# Altium footprint library Pcb封装库.PcbLib: 36 footprints (part 1 of 3)
Each footprint in its own frame and in the unit in brackets; x right, y up, seen from the top. Pads: shape width x height; smd on the part's side, far side on the other; paste and mask are expansions set on the pad; w line width, h text height; cw(c..) or ccw(c..) is an arc to the next point about the centre after c.
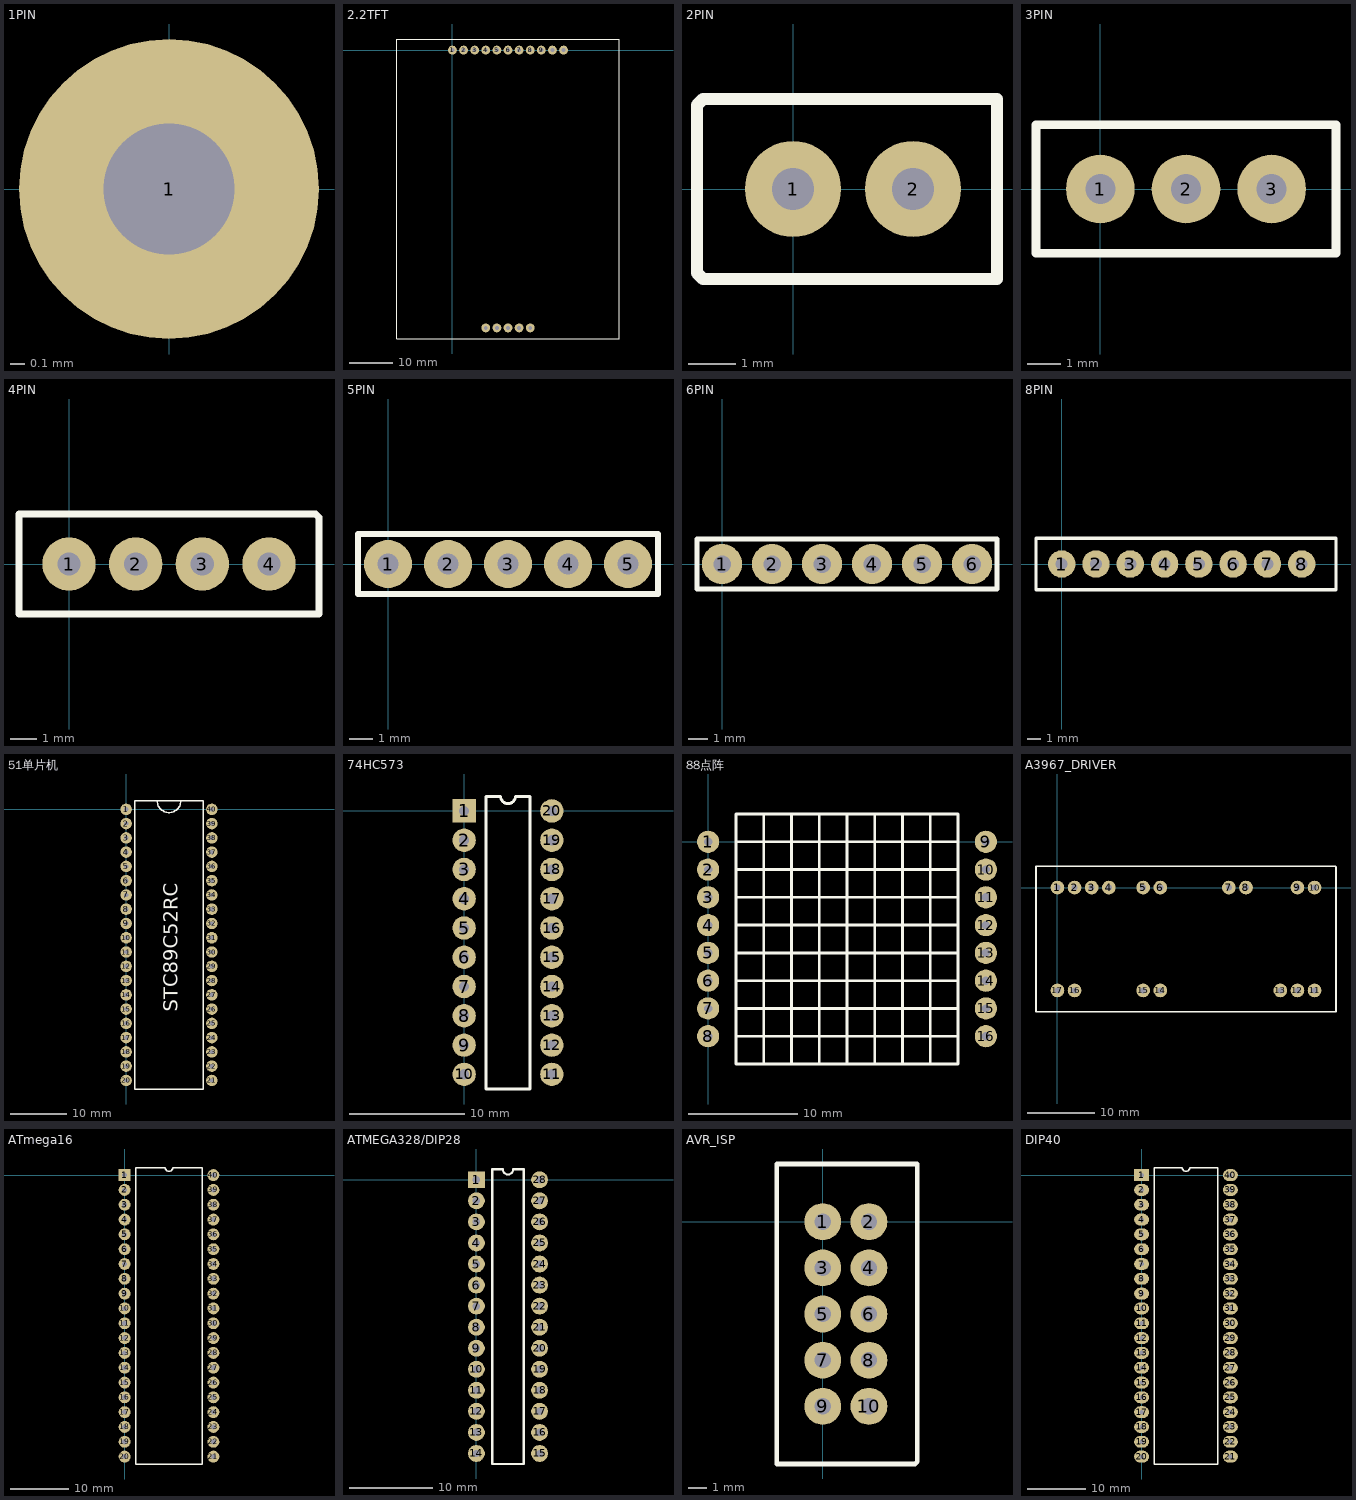
[diagram p0: the footprints below, top view; thin cyan lines are the x and y axes]

## 1PIN [mil]
pads (1):
  round 80 hole 35: 1(0,0)

## 2.2TFT [mil]
pads (16):
  round 80 hole 35: 1(0,0) 2(100,0) 3(200,0) 4(300,0) 5(400,0) 6(500,0) 7(600,0) 8(700,0) 9(800,0) 10(900,0) 11(1000,0) 12(300,-2500) 13(400,-2500) 14(500,-2500) 15(600,-2500) 16(700,-2500)
Top Overlay:
  lines w10: -500,-2600 -255,-2600 1500,-2600 1500,0 1500,100 -500,100 -500,0 -500,-2600

## 2PIN [mil]
pads (2):
  round 80 hole 35: 1(0,0) 2(100,0)
Top Overlay:
  lines w10: -80,-70 -80,70 -75,75 170,75 170,-75 -75,-75 -80,-70

## 3PIN [mil]
pads (3):
  round 80 hole 35: 1(0,0) 2(100,0) 3(200,0)
Top Overlay:
  lines w10: -75,-75 275,-75 275,75 -75,75 -75,-75

## 4PIN [mil]
pads (4):
  round 80 hole 35: 1(0,0) 2(100,0) 3(200,0) 4(300,0)
Top Overlay:
  lines w10: -75,-75 -75,75 370,75 375,70 375,-45 375,-75 -75,-75

## 5PIN [mil]
pads (5):
  round 80 hole 35: 1(0,0) 2(100,0) 3(200,0) 4(300,0) 5(400,0)
Top Overlay:
  lines w10: -50,-50 -50,50 450,50 450,-50 -50,-50

## 6PIN [mil]
pads (6):
  round 80 hole 35: 1(0,0) 2(100,0) 3(200,0) 4(300,0) 5(400,0) 6(500,0)
Top Overlay:
  lines w10: -50,-50 -50,50 550,50 550,-50 -50,-50

## 8PIN [mil]
pads (8):
  round 80 hole 35: 1(0,0) 2(100,0) 3(200,0) 4(300,0) 5(400,0) 6(500,0) 7(600,0) 8(700,0)
Top Overlay:
  lines w10: -75,-75 800,-75 800,75 -75,75 -75,-75

## 51单片机 [mil]
pads (40):
  round 80 hole 30: 1(0,0) 2(0,-100) 3(0,-200) 4(0,-300) 5(0,-400) 6(0,-500) 7(0,-600) 8(0,-700) 9(0,-800) 10(0,-900) 11(0,-1000) 12(0,-1100) 13(0,-1200) 14(0,-1300) 15(0,-1400) 16(0,-1500) 17(0,-1600) 18(0,-1700) 19(0,-1800) 20(0,-1900) 21(600,-1900) 22(600,-1800) 23(600,-1700) 24(600,-1600) 25(600,-1500) 26(600,-1400) 27(600,-1300) 28(600,-1200) 29(600,-1100) 30(600,-1000) 31(600,-900) 32(600,-800) 33(600,-700) 34(600,-600) 35(600,-500) 36(600,-400) 37(600,-300) 38(600,-200) 39(600,-100) 40(600,0)
Top Overlay:
  lines w10: 217.54,60 ccw(c300,60) 382.46,60 ; 60,-1960 60,60 540,60 540,-1960 60,-1960
  text "STC89C52RC" at 360,-1420 h100

## 74HC573 [mil]
pads (20):
  rect 80x80 hole 35: 1(0,0)
  round 80 hole 35: 2(0,-100) 3(0,-200) 4(0,-300) 5(0,-400) 6(0,-500) 7(0,-600) 8(0,-700) 9(0,-800) 10(0,-900) 11(300,-900) 12(300,-800) 13(300,-700) 14(300,-600) 15(300,-500) 16(300,-400) 17(300,-300) 18(300,-200) 19(300,-100) 20(300,0)
Top Overlay:
  lines w10: 75,-950 225,-950 225,50 175,50 cw(c150,50) 125,50 75,50 75,-950

## 88点阵 [mil]
pads (16):
  round 80 hole 30: 1(0,0) 2(0,-100) 3(0,-200) 4(0,-300) 5(0,-400) 6(0,-500) 7(0,-600) 8(0,-700) 9(1000,0) 10(1000,-100) 11(1000,-200) 12(1000,-300) 13(1000,-400) 14(1000,-500) 15(1000,-600) 16(1000,-700)
Top Overlay:
  lines w10: 100,-700 900,-700 ; 100,-600 900,-600 ; 100,-500 900,-500 ; 100,-400 900,-400 ; 100,-300 900,-300 ; 100,-200 900,-200 ; 100,-100 900,-100 ; 100,0 900,0 ; 200,-800 200,100 ; 300,-800 300,100 ; 400,-800 400,100 ; 500,-800 500,100 ; 600,-800 600,100 ; 700,-800 700,100 ; 800,-800 800,100 ; 100,-800 100,100 900,100 900,-800 100,-800

## A3967_DRIVER [mil]
pads (17):
  round 80 hole 35: 1(0,0) 2(100,0) 3(200,0) 4(300,0) 5(500,0) 6(600,0) 7(1000,0) 8(1100,0) 9(1400,0) 10(1500,0) 11(1500,-600) 12(1400,-600) 13(1300,-600) 14(600,-600) 15(500,-600) 16(100,-600) 17(0,-600)
Top Overlay:
  lines w10: -125,-725 -125,125 -75,125 1620,125 1625,120 1625,-725 -125,-725

## ATmega16 [mil]
pads (40):
  rect 80x80 hole 35: 1(0,0)
  round 80 hole 35: 2(0,-100) 3(0,-200) 4(0,-300) 5(0,-400) 6(0,-500) 7(0,-600) 8(0,-700) 9(0,-800) 10(0,-900) 11(0,-1000) 12(0,-1100) 13(0,-1200) 14(0,-1300) 15(0,-1400) 16(0,-1500) 17(0,-1600) 18(0,-1700) 19(0,-1800) 20(0,-1900) 21(600,-1900) 22(600,-1800) 23(600,-1700) 24(600,-1600) 25(600,-1500) 26(600,-1400) 27(600,-1300) 28(600,-1200) 29(600,-1100) 30(600,-1000) 31(600,-900) 32(600,-800) 33(600,-700) 34(600,-600) 35(600,-500) 36(600,-400) 37(600,-300) 38(600,-200) 39(600,-100) 40(600,0)
Top Overlay:
  lines w10: 75,-1950 75,50 275,50 ccw(c300,50) 325,50 525,50 525,-1950 75,-1950

## ATMEGA328/DIP28 [mil]
pads (28):
  rect 80x80 hole 35: 1(0,0)
  round 80 hole 35: 2(0,-100) 3(0,-200) 4(0,-300) 5(0,-400) 6(0,-500) 7(0,-600) 8(0,-700) 9(0,-800) 10(0,-900) 11(0,-1000) 12(0,-1100) 13(0,-1200) 14(0,-1300) 15(300,-1300) 16(300,-1200) 17(300,-1100) 18(300,-1000) 19(300,-900) 20(300,-800) 21(300,-700) 22(300,-600) 23(300,-500) 24(300,-400) 25(300,-300) 26(300,-200) 27(300,-100) 28(300,0)
Top Overlay:
  lines w10: 75,-1350 75,50 125,50 ccw(c150,50) 175,50 225,50 225,-1350 75,-1350

## AVR_ISP [mil]
pads (10):
  round 80 hole 35: 1(0,0) 2(100,0) 3(0,-100) 4(100,-100) 5(0,-200) 6(100,-200) 7(0,-300) 8(100,-300) 9(0,-400) 10(100,-400)
Top Overlay:
  lines w10: -100,-525 -100,125 205,125 205,-520 200,-525 -100,-525

## DIP40 [mil]
pads (40):
  rect 100x80 hole 30: 1(0,0)
  oval 100x80 hole 30: 2(0,-100) 3(0,-200) 4(0,-300) 5(0,-400) 6(0,-500) 7(0,-600) 8(0,-700) 9(0,-800) 10(0,-900) 11(0,-1000) 12(0,-1100) 13(0,-1200) 14(0,-1300) 15(0,-1400) 16(0,-1500) 17(0,-1600) 18(0,-1700) 19(0,-1800) 20(0,-1900) 21(600,-1900) 22(600,-1800) 23(600,-1700) 24(600,-1600) 25(600,-1500) 26(600,-1400) 27(600,-1300) 28(600,-1200) 29(600,-1100) 30(600,-1000) 31(600,-900) 32(600,-800) 33(600,-700) 34(600,-600) 35(600,-500) 36(600,-400) 37(600,-300) 38(600,-200) 39(600,-100) 40(600,0)
Top Overlay:
  lines w10: 85,-1950 85,50 275,50 ccw(c300,50) 325,50 515,50 515,-1950 85,-1950